# EAGLE library part 3M-961210-5500 (library pq-ps-parts)
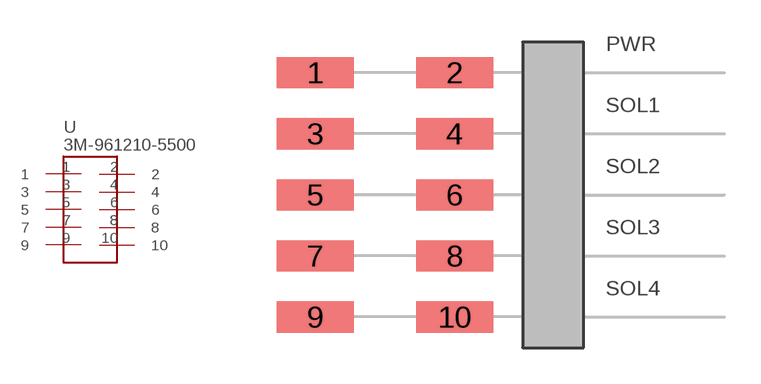
[diagram p0: symbol with the pads of 3M-961210-5500; footprint 3M-961210-5500]

Designator prefix -

## 3M-961210-5500  [3M-961210-5500]
1  1
2  2
3  3
4  4
5  5
6  6
7  7
8  8
9  9
10  10

## Footprint 3M-961210-5500 (pad centres in mm)
smd 3.2 x 1.295: 1 0,5.08; 2 5.791,5.08; 3 0,2.54; 4 5.791,2.54; 5 0,0; 6 5.791,0; 7 0,-2.54; 8 5.791,-2.54; 9 0,-5.08; 10 5.791,-5.08